# Altium schematic symbol library SCH - DRIVER - LED - TI UCC25701_PW_14.SchLib: 1 symbol
Pins are listed as number, name and electrical type; pins without a type are passive.

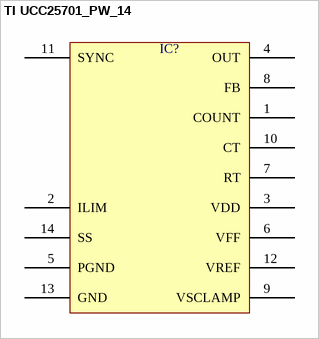
[diagram p0: symbol TI UCC25701_PW_14]

## TI UCC25701_PW_14
designator IC?  (value not drawn)
pins: 1 COUNT, 2 ILIM, 3 VDD, 4 OUT, 5 PGND, 6 VFF, 7 RT, 8 FB, 9 VSCLAMP, 10 CT, 11 SYNC, 12 VREF, 13 GND, 14 SS